# EAGLE library part LM224ADT (library imported-parts)
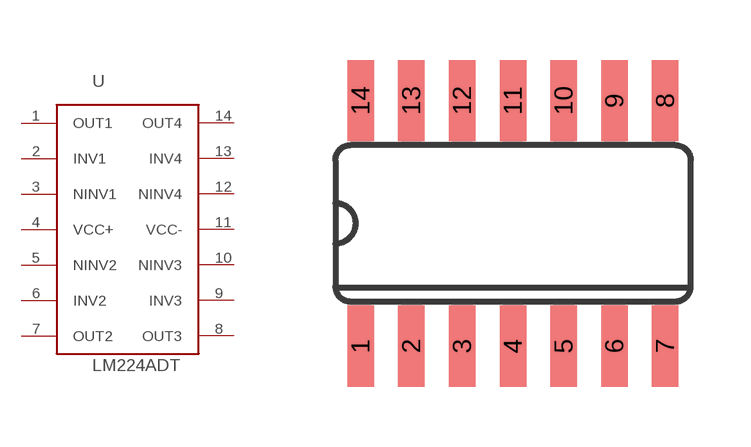
[diagram p10: symbol with the pads of SO14; footprint SO14]

Designator prefix -

## LM224ADT  [SO14]
1  OUT1  out
2  INV1  in
3  NINV1  in
4  VCC+  pwr
5  NINV2  in
6  INV2  in
7  OUT2  out
8  OUT3  out
9  INV3  in
10  NINV3  in
11  VCC-  pwr
12  NINV4  in
13  INV4  in
14  OUT4  out

## Footprint SO14 (pad centres in mm)
Small Outline package 150 mil
smd 0.66 x 2.032: 1 -3.81,-3.073; 2 -2.54,-3.073; 3 -1.27,-3.073; 4 0,-3.073; 5 1.27,-3.073; 6 2.54,-3.073; 7 3.81,-3.073; 8 3.81,3.073; 9 2.54,3.073; 10 1.27,3.073; 11 0,3.073; 12 -1.27,3.073; 13 -2.54,3.073; 14 -3.81,3.073